# Altium schematic symbol library Socket.SchLib: 20 symbols
Pins are listed as number, name and electrical type; pins without a type are passive.

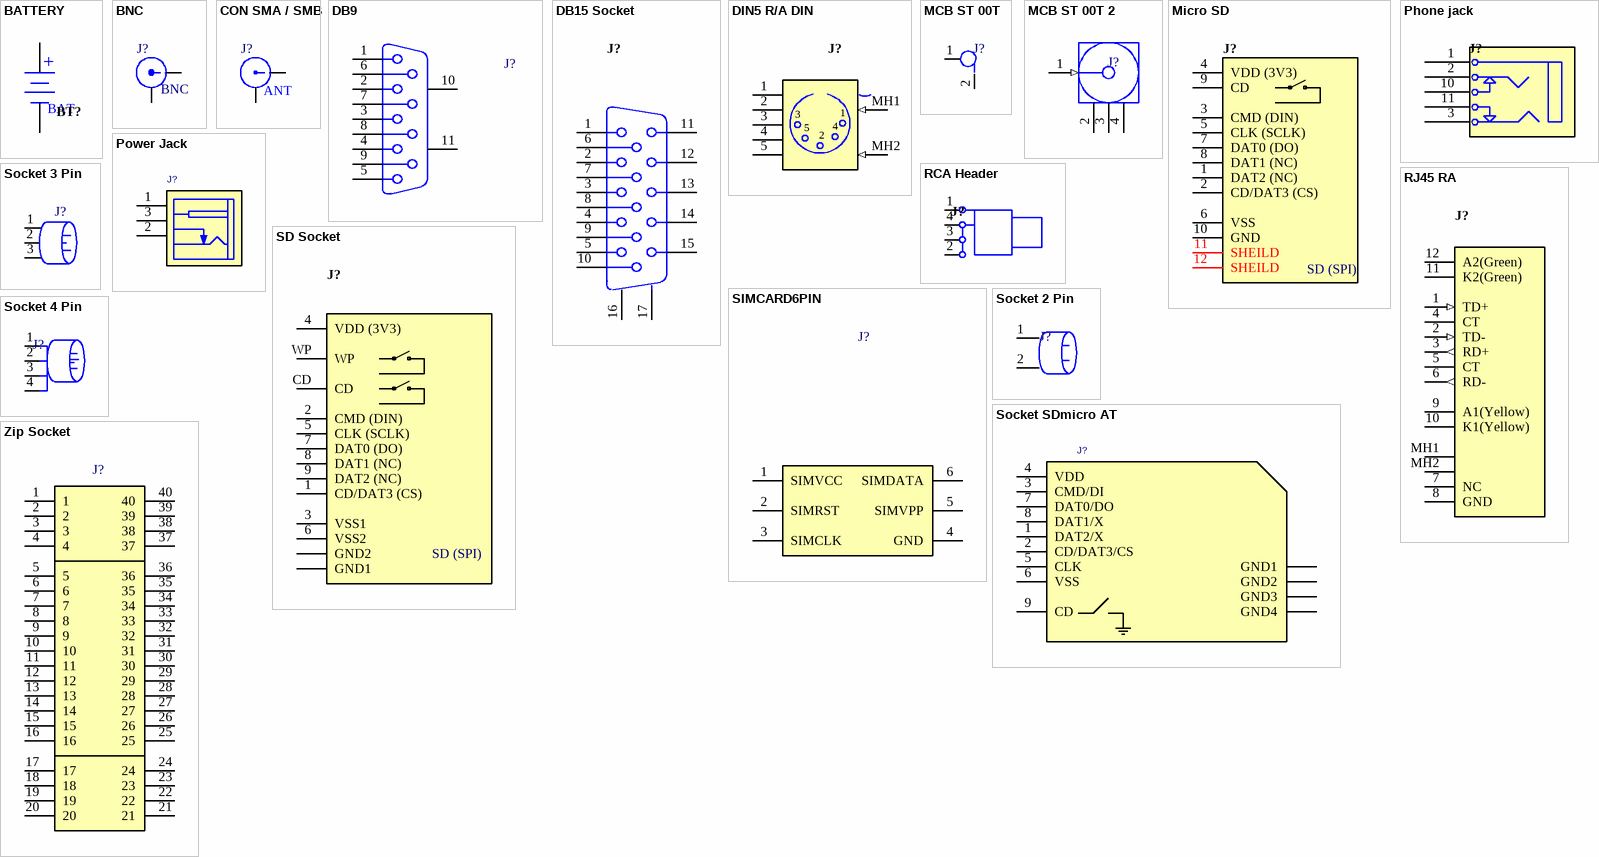
[diagram p0: symbols BATTERY to Zip Socket]

## BATTERY
designator BT?  value BAT
BATTERY; DatasheetVersion: 2022
pins: 1 + (power), 2 - (power)
1 alternate drawing of the same symbol

## BNC
designator J?  value BNC
BNC Socket, PCB Mounted; DatasheetVersion: 2022
pins: 1, 2

## CON SMA / SMB
designator J?  value ANT
CON SMA / SMB; DatasheetVersion: 2022
pins: 1, 2

## DB9
designator J?
DB9; DatasheetVersion: 2022
pins: 1 (Data Carrier Detect) DCD, 2 (Receive Data) RxD, 3 (Trasmit Data) TxD, 4 (Data Terminal Ready) DTR, 5 (Signal Ground) GND, 6 (Data Set Ready) DSR, 7 (Request To Send) RTS, 8 (Clear To Send) CTS, 9 (Ring Indicator) RI, 10, 11
2 alternate drawings of the same symbol

## DB15 Socket
designator J?
DB15 Socket; DatasheetVersion: 2022
pins: 1 "Red Video", 2 "Green Video", 3 "Blue Video", 4 "Monitor ID Bit 2 (Ground)", 5 (power) "Ground", 6 (power) "Red Return (Ground)", 7 (power) "Green Return (Ground)", 8 (power) "Blue Return (Ground)", 9 "Key (not used)", 10 (power) "Sync Return (Ground)", 11 (power) "Monitor ID Bit 0 (Ground)", 12 "Monitor ID Bit 1 (Not Used)", 13 "Horizontal Zync", 14 "Vertical Sync", 15 "Vertical Sync", 16 MH1 "shield", 17 MH2 "shield"

## DIN5 R/A DIN
designator J?
DIN5 R/A DIN; DatasheetVersion: 2022
pins: 1, 2, 3, 4, 5, MH1 (in), MH2 (in)

## MCB ST 00T
designator J?
MCB ST 00T; ComponentLinkp-URL: https://www.smartw.ir/; DatasheetVersion: 2022
pins: 1, 2

## MCB ST 00T 2
designator J?
MCB ST 00T; ComponentLinkp-URL: https://www.smartw.ir/; DatasheetVersion: 2022
pins: 1 Signal (in) "Signal Pin", 2 GND (power), 3 GND (power), 4 GND (power)

## Micro SD
designator J?
Secure Digital Card Socket; DatasheetVersion: 2022
pins: 1 DAT2 (NC), 2 CD/DAT3 (CS), 3 CMD (DIN), 4 VDD (3V3) (power), 5 CLK (SCLK), 6 VSS (power), 7 DAT0 (DO), 8 DAT1 (NC), 9 CD, 10 GND (power), 11 SHEILD (power), 12 SHEILD (power)
text: SD (SPI)

## Phone jack
designator J?
DatasheetVersion: 2022
pins: 1, 2, 3, 10, 11
3 alternate drawings of the same symbol

## Power Jack
designator J?
Power Jack; DatasheetVersion: 2022
pins: 1 TIP (power), 2 SLEEVE (power), 3 INSERTION_DET (power)

## RCA Header
designator J?
RCA Header; DatasheetVersion: 2022
pins: 1 Black, 2 Yellow, 3 White, 4 Red

## RJ45 RA
designator J?
RJ45 RA; DatasheetVersion: 2022
pins: 1 TD+ (in), 2 TD- (in), 3 RD+ (out), 4 CT (power), 5 CT (power), 6 RD- (out), 7 NC, 8 GND (power), 9 A1(Yellow), 10 K1(Yellow), 11 K2(Green), 12 A2(Green), MH1 (power), MH2 (power)
1 alternate drawing of the same symbol

## SD Socket
designator J?
DatasheetVersion: 2022
pins: 1 CD/DAT3 (CS), 2 CMD (DIN), 3 VSS1 (power), 4 VDD (3V3) (power), 5 CLK (SCLK), 6 VSS2 (power), 7 DAT0 (DO), 8 DAT1 (NC), 9 DAT2 (NC), CD, GND1 (power), GND2 (power), WP
text: SD (SPI)

## SIMCARD6PIN
designator J?
SIMCARD6PIN; ComponentLinkp-URL: https://www.smartw.ir/; DatasheetVersion: 2022
pins: 1 SIMVCC, 2 SIMRST, 3 SIMCLK, 4 GND, 5 SIMVPP, 6 SIMDATA

## Socket 2 Pin
designator J?
Power Input; DatasheetVersion: 2022
pins: 1, 2

## Socket 3 Pin
designator J?
Power Input; DatasheetVersion: 2022
pins: 1, 2, 3

## Socket 4 Pin
designator J?
Power Input; DatasheetVersion: 2022
pins: 1, 2, 3, 4

## Socket SDmicro AT
designator J?
Socket SDmicro AT; DatasheetVersion: 2022
pins: 1 DAT2/X, 2 CD/DAT3/CS, 3 CMD/DI, 4 VDD, 5 CLK, 6 VSS, 7 DAT0/DO, 8 DAT1/X, 9 CD, SH1 GND1, SH2 GND2, SH3 GND3, SH4 GND4

## Zip Socket
designator J?
40pin Zip/Zif Socket; DatasheetVersion: 2022
pins: 1, 2, 3, 4, 5, 6, 7, 8, 9, 10, 11, 12, 13, 14, 15, 16, 17, 18, 19, 20, 21, 22, 23, 24, 25, 26, 27, 28, 29, 30, 31, 32, 33, 34, 35, 36, 37, 38, 39, 40